# EAGLE library part LT1371 (library bodger)
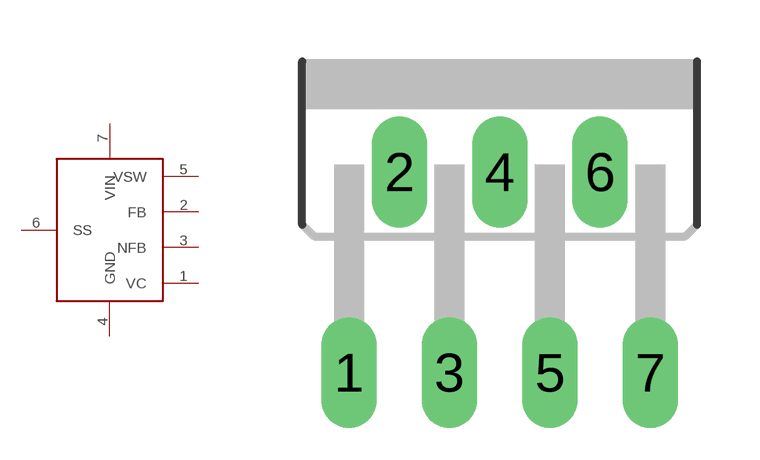
[diagram p54: symbol with the pads of TO220-7; footprint TO220-7]

Designator prefix -

## LT1371TO-220-7  [TO220-7]
1  VC  in
2  FB  in
3  NFB  in
4  GND  pwr
5  VSW  out
6  SS  in
7  VIN  pwr

## Footprint TO220-7 (pad centres in mm)
TO220-7
drill 0.9 long: 1 -3.81,-5.08; 2 -2.54,0; 3 -1.27,-5.08; 4 0,0; 5 1.27,-5.08; 6 2.54,0; 7 3.81,-5.08